# EAGLE library part HEADER_8_PIN (library a111)
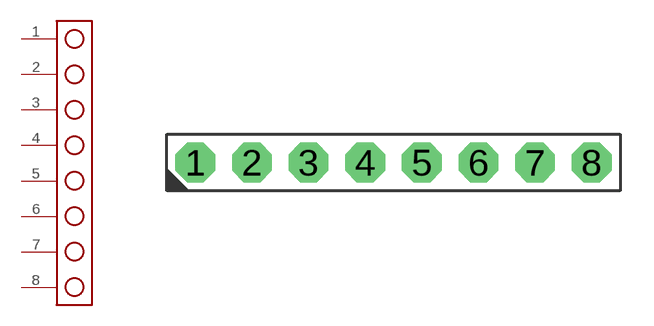
[diagram p1: symbol with the pads of HEADER_8_PIN; footprint HEADER_8_PIN]

Designator prefix J

## HEADER_8_PIN  [HEADER_8_PIN]
1  1
2  2
3  3
4  4
5  5
6  6
7  7
8  8

## Footprint HEADER_8_PIN (pad centres in mm)
drill 1 pad 1.778 octagon: 1 -8.89,0; 2 -6.35,0; 3 -3.81,0; 4 -1.27,0; 5 1.27,0; 6 3.81,0; 7 6.35,0; 8 8.89,0